# Altium footprint library mind.PcbLib: 11 footprints
Each footprint in its own frame and in the unit in brackets; x right, y up, seen from the top. Pads: shape width x height; smd on the part's side, far side on the other; paste and mask are expansions set on the pad; w line width, h text height; cw(c..) or ccw(c..) is an arc to the next point about the centre after c.
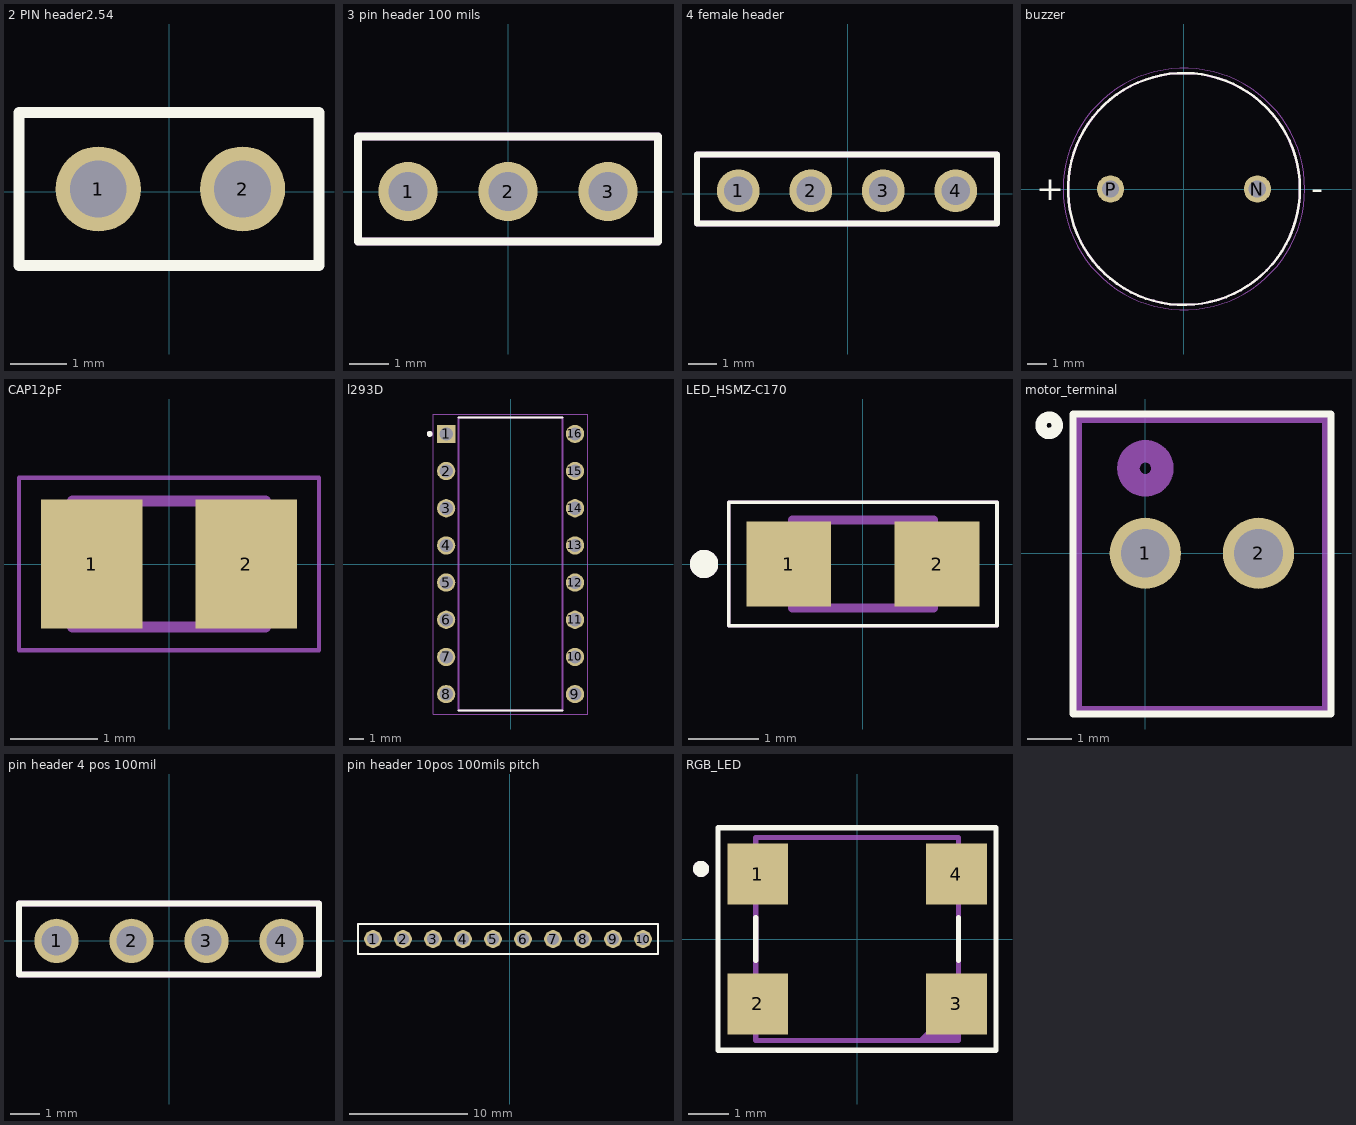
[diagram p0: the footprints below, top view; thin cyan lines are the x and y axes]

## 2 PIN header2.54 [mm]
pads (2):
  round 1.5 hole 1 mask+0.3: 1(-1.245,0.051) 2(1.295,0.051)
Top Overlay:
  lines w0.2: -2.642,-1.295 -2.642,-0.603 -2.642,0.73 -2.642,1.397 ; -2.591,-1.295 2.642,-1.295 2.642,-0.603 2.642,0.73 2.642,1.397 ; -2.591,1.397 2.616,1.397
3D body "HTSW-102-16-T-S.stp": height 10.67, standoff -7.87, extent -2.54,-1.194 2.54,1.295

## 3 pin header 100 mils [mm]
pads (3):
  round 1.5 hole 1 mask+0.3: 1(-2.54,0) 2(0,0) 3(2.54,0)
Top Overlay:
  lines w0.2: -3.81,-1.27 3.81,-1.27 3.81,1.397 -3.81,1.397 -3.81,-1.27
Mechanical 13:
  lines w0.2: -3.81,-1.27 -3.81,1.397 3.81,1.397 3.81,-1.27 -3.81,-1.27
3D body "M20-9990346--3DModel-STEP-56544.STEP": height 8.74, standoff -3, extent -3.81,-1.27 3.81,1.27

## 4 female header [mm]
pads (4):
  round 1.5 hole 1 mask+0.3: 1(-3.835,0.102) 2(-1.295,0.102) 3(1.245,0.102) 4(3.785,0.102)
Top Overlay:
  lines w0.2: -5.283,-1.041 -5.283,1.372 5.232,1.372 5.232,-1.041 -5.283,-1.041
Mechanical 13:
  lines w0.2: -5.283,-1.041 -5.283,1.372 5.232,1.372 5.232,-1.041 -5.283,-1.041
3D body "PPPC041LFBNRC--3DModel-STEP-269445.STEP": height 8.51, standoff -3.2, extent -5.359,-1.092 5.309,1.448

## buzzer [mm]
pads (2):
  round 1.408 hole 0.9: N(3.8,0) P(-3.8,0)
Top Overlay:
  lines w0.127: 6,0 cw(c0,0) 6,0.024
  text "-" at 6.593,-0.571 h1.27
  text "+" at -7.656,-0.571 h1.27
Mechanical 13:
  circle w0.127: c0,0 r6
Mechanical 15:
  circle w0.05: c0,0 r6.25
3D body "step_temp.STEP": height 7, standoff -6, extent -6,-6 6,6

## CAP12pF [mm]
pads (2):
  rect 1.16x1.47 smd: 1(-0.88,0) 2(0.88,0)
Mechanical 13:
  lines w0.127: -1.1,-0.72 -1.1,0.72 1.1,0.72 1.1,-0.72 -1.1,-0.72
Mechanical 15:
  lines w0.05: -1.713,-0.983 -1.713,0.983 1.713,0.983 1.713,-0.983 -1.713,-0.983
3D body "step_temp.STEP": height 0.94, standoff 0, extent -1.005,-0.625 1.005,0.625

## l293D [mm]
height 5.1
pads (16):
  rect 1.25x1.25 / inner round 1.25 / far side rect 1.25x1.25 hole 0.9: 1(-4.4,8.89)
  round 1.25 hole 0.9: 2(-4.4,6.35) 3(-4.4,3.81) 4(-4.4,1.27) 5(-4.4,-1.27) 6(-4.4,-3.81) 7(-4.4,-6.35) 8(-4.4,-8.89) 9(4.4,-8.89) 10(4.4,-6.35) 11(4.4,-3.81) 12(4.4,-1.27) 13(4.4,1.27) 14(4.4,3.81) 15(4.4,6.35) 16(4.4,8.89)
Top Overlay:
  circle w0.2: c-5.525,8.89 r0.1
  lines w0.127: -3.55,-10 3.55,-10 ; -3.55,10 3.55,10
Mechanical 13:
  circle w0.2: c-5.525,8.89 r0.1
  lines w0.127: -3.55,-10 3.55,-10 3.55,10 -3.55,10 -3.55,-10
Mechanical 15:
  lines w0.05: -5.275,-10.25 5.275,-10.25 5.275,10.25 -5.275,10.25 -5.275,-10.25
3D body "step_temp.STEP": height 5.1, standoff -3.3, extent -4.62,-10 4.62,10

## LED_HSMZ-C170 [mm]
height 0.8
pads (2):
  rect 1.2x1.2 smd: 1(-1.05,0) 2(1.05,0)
Top Overlay:
  circle w0.2: c-2.25,0 r0.1
  lines w0.05: -1.9,-0.875 -1.9,0.875 1.9,0.875 1.9,-0.875 -1.9,-0.875
Mechanical 13:
  circle w0.2: c-2.25,0 r0.1
  lines w0.127: -1,-0.625 1,-0.625 1,0.625 -1,0.625 -1,-0.625
Mechanical 15:
  lines w0.05: -1.9,-0.875 1.9,-0.875 1.9,0.875 -1.9,0.875 -1.9,-0.875
3D body "step_temp.STEP": height 0.8, standoff 0, extent -1,-0.625 1,0.625

## motor_terminal [mil]
pads (2):
  round 63 hole 43: 1(0,0) 2(100,0)
Top Overlay:
  circle w10: c-85,113 r7.21
  lines w6: -64,-142 164,-142 164,123 -64,123 -64,-142
Mechanical 13:
  lines w6: -59,-138 159,-138 159,118 -59,118 -59,-138
  lines w20: -15,75 cw(c0,75) 15,75 cw(c0,75) -15,75
3D body "397730002.stp": height 394, standoff -134, extent -58,-140 160,116

## pin header 4 pos 100mil [mm]
pads (4):
  round 1.5 hole 1 mask+0.3: 1(-3.81,0) 2(-1.27,0) 3(1.27,0) 4(3.81,0)
Top Overlay:
  lines w0.2: -5.08,-1.143 5.08,-1.143 5.08,1.27 -5.08,1.27 -5.08,-1.143
Mechanical 13:
  lines w0.2: -5.08,-1.143 -5.08,1.27 5.08,1.27 5.08,-1.143 -5.08,-1.143
3D body "m20-9730446.stp": height 10, standoff -2.6, extent -5.08,-1.27 5.08,1.27

## pin header 10pos 100mils pitch [mm]
pads (10):
  round 1.5 hole 1 mask+0.3: 1(-11.557,0.127) 2(-9.017,0.127) 3(-6.477,0.127) 4(-3.937,0.127) 5(-1.397,0.127) 6(1.143,0.127) 7(3.683,0.127) 8(6.223,0.127) 9(8.763,0.127) 10(11.303,0.127)
Top Overlay:
  lines w0.2: -12.827,-1.143 -12.827,1.397 12.573,1.397 12.573,-1.143 -12.827,-1.143
Mechanical 13:
  lines w0.2: -12.827,-1.143 12.573,-1.143 12.573,1.397 -12.827,1.397 -12.827,-1.143
3D body "TSW-110-06-S-S.stp": height 5.21, standoff -2.41, extent -12.954,-1.143 12.573,1.397

## RGB_LED [mm]
pads (4):
  rect 1.5x1.5 smd: 1(-2.45,1.6) 2(-2.45,-1.6) 3(2.45,-1.6) 4(2.45,1.6)
Top Overlay:
  circle w0.2: c-3.85,1.73 r0.1
  lines w0.127: -2.5,-0.53 -2.5,0.53 ; 2.5,-0.53 2.5,0.53 ; -3.429,-2.743 -3.429,2.743 3.429,2.743 3.429,-2.743 -3.429,-2.743
Mechanical 13:
  circle w0.2: c-3.85,1.73 r0.1
  region: 2.5,-2.5 1.5,-2.5 2.5,-1.5
  lines w0.127: -2.5,-2.5 -2.5,2.5 2.5,2.5 2.5,-2.5 -2.5,-2.5
Mechanical 15:
  lines w0.05: -3.45,-2.75 -3.45,2.75 3.45,2.75 3.45,-2.75 -3.45,-2.75
3D body "step_temp.STEP": height 1.6, standoff 0, extent -2.7,-2.5 2.7,2.5